# Altium schematic symbol library dsPIC33EP512GP806.SchLib: 1 symbol
Pins are listed as number, name and electrical type; pins without a type are passive.

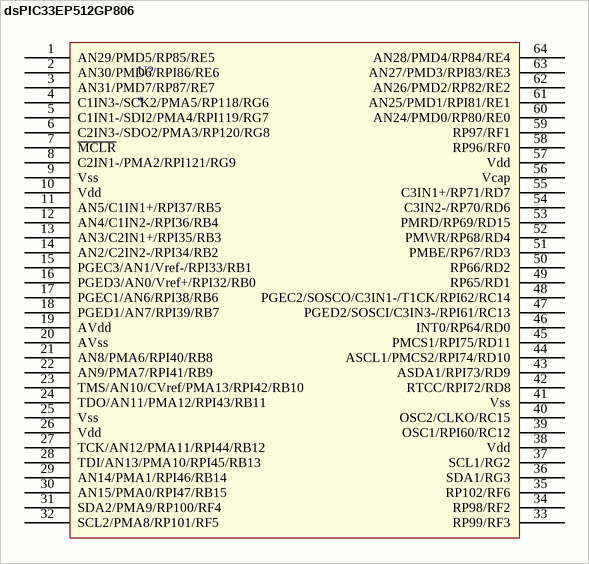
[diagram p0: symbol dsPIC33EP512GP806]

## dsPIC33EP512GP806
designator U?
pins: 1 AN29/PMD5/RP85/RE5, 2 AN30/PMD6/RPI86/RE6, 3 AN31/PMD7/RP87/RE7, 4 C1IN3-/SCK2/PMA5/RP118/RG6, 5 C1IN1-/SDI2/PMA4/RPI119/RG7, 6 C2IN3-/SDO2/PMA3/RP120/RG8, 7 ~{MCLR}, 8 C2IN1-/PMA2/RPI121/RG9, 9 Vss, 10 Vdd, 11 AN5/C1IN1+/RPI37/RB5, 12 AN4/C1IN2-/RPI36/RB4, 13 AN3/C2IN1+/RPI35/RB3, 14 AN2/C2IN2-/RPI34/RB2, 15 PGEC3/AN1/Vref-/RPI33/RB1, 16 PGED3/AN0/Vref+/RPI32/RB0, 17 PGEC1/AN6/RPI38/RB6, 18 PGED1/AN7/RPI39/RB7, 19 AVdd, 20 AVss, 21 AN8/PMA6/RPI40/RB8, 22 AN9/PMA7/RPI41/RB9, 23 TMS/AN10/CVref/PMA13/RPI42/RB10, 24 TDO/AN11/PMA12/RPI43/RB11, 25 Vss, 26 Vdd, 27 TCK/AN12/PMA11/RPI44/RB12, 28 TDI/AN13/PMA10/RPI45/RB13, 29 AN14/PMA1/RPI46/RB14, 30 AN15/PMA0/RPI47/RB15, 31 SDA2/PMA9/RP100/RF4, 32 SCL2/PMA8/RP101/RF5, 33 RP99/RF3, 34 RP98/RF2, 35 RP102/RF6, 36 SDA1/RG3, 37 SCL1/RG2, 38 Vdd, 39 OSC1/RPI60/RC12, 40 OSC2/CLKO/RC15, 41 Vss, 42 RTCC/RPI72/RD8, 43 ASDA1/RPI73/RD9, 44 ASCL1/PMCS2/RPI74/RD10, 45 PMCS1/RPI75/RD11, 46 INT0/RP64/RD0, 47 PGED2/SOSCI/C3IN3-/RPI61/RC13, 48 PGEC2/SOSCO/C3IN1-/T1CK/RPI62/RC14, 49 RP65/RD1, 50 RP66/RD2, 51 PMBE/RP67/RD3, 52 PMWR/RP68/RD4, 53 PMRD/RP69/RD15, 54 C3IN2-/RP70/RD6, 55 C3IN1+/RP71/RD7, 56 Vcap, 57 Vdd, 58 RP96/RF0, 59 RP97/RF1, 60 AN24/PMD0/RP80/RE0, 61 AN25/PMD1/RPI81/RE1, 62 AN26/PMD2/RP82/RE2, 63 AN27/PMD3/RPI83/RE3, 64 AN28/PMD4/RP84/RE4